# Altium footprint library DNM48Z V1.1.PcbLib: 15 footprints
Each footprint in its own frame and in the unit in brackets; x right, y up, seen from the top. Pads: shape width x height; smd on the part's side, far side on the other; paste and mask are expansions set on the pad; w line width, h text height; cw(c..) or ccw(c..) is an arc to the next point about the centre after c.
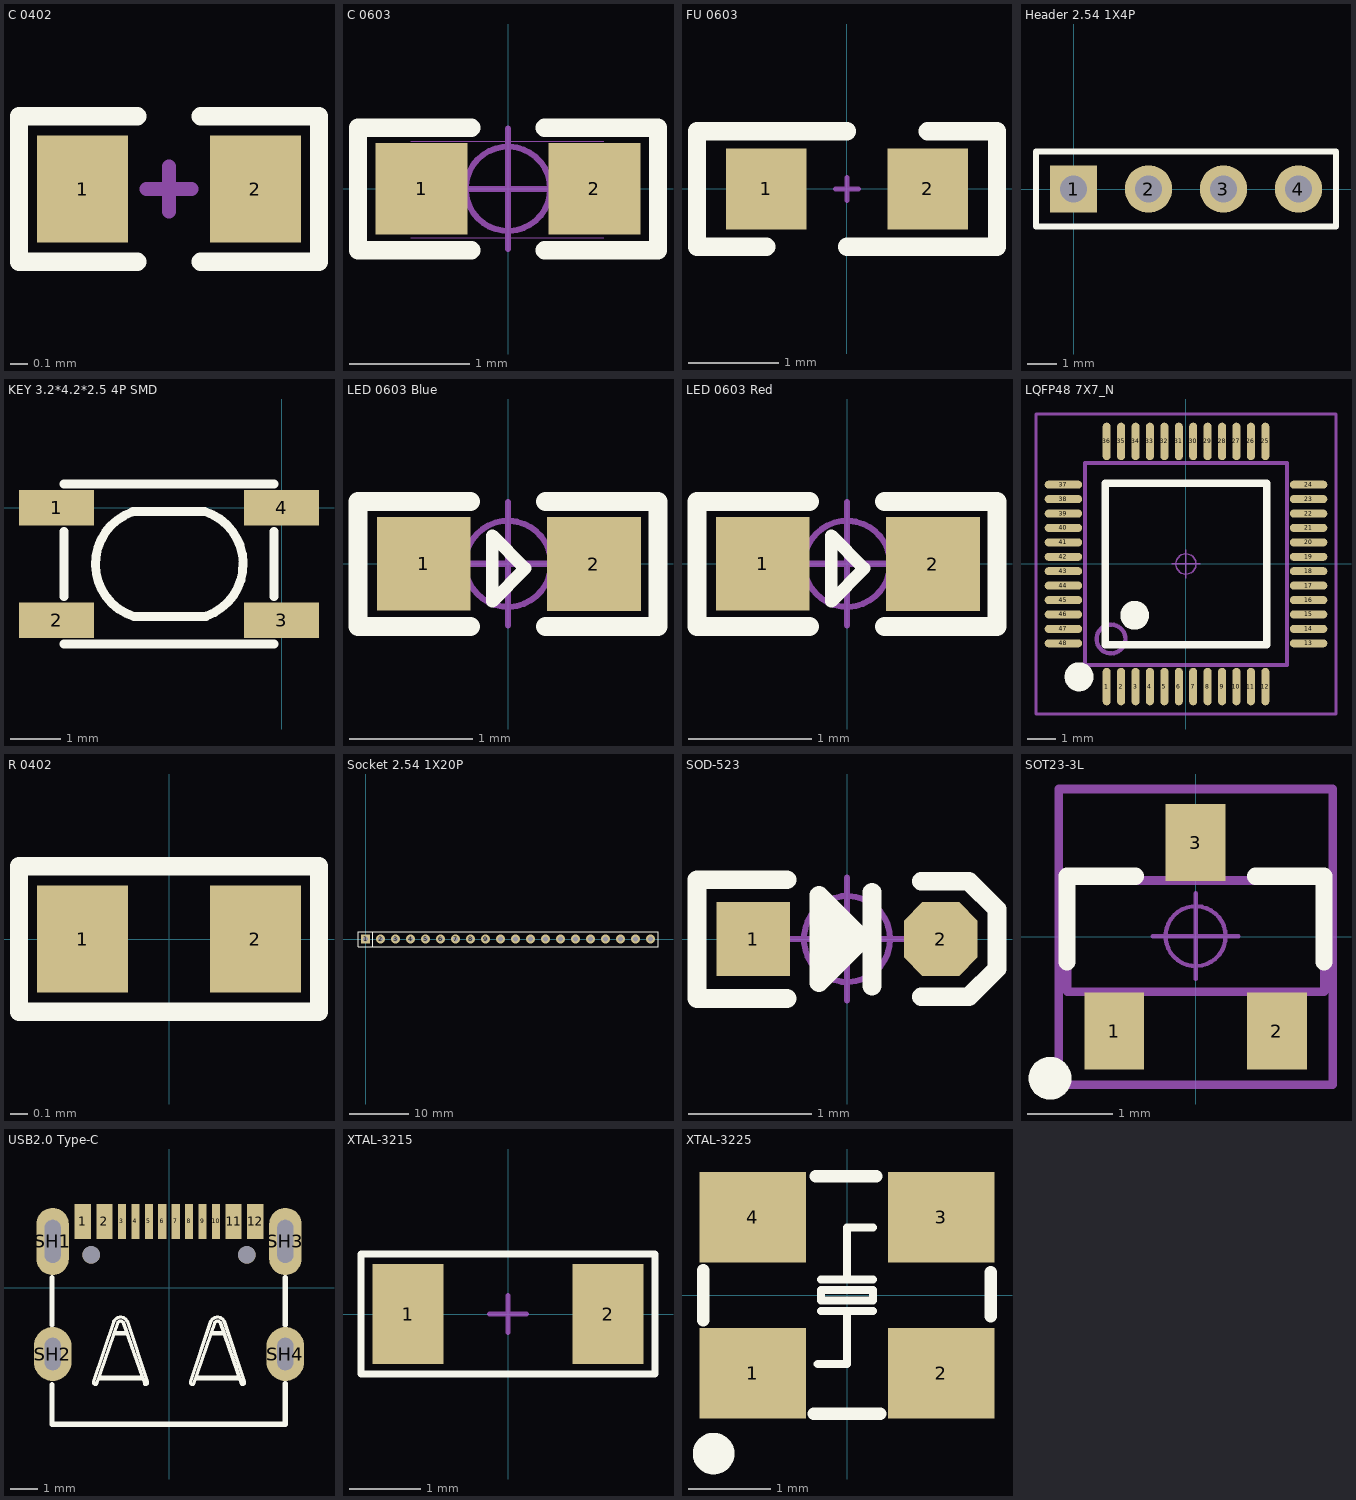
[diagram p0: the footprints below, top view; thin cyan lines are the x and y axes]

## C 0402 [mil]
pads (2):
  rect 20x23.62 smd mask+2: 1(-50019,-50000) 2(-49981,-50000)
Top Overlay:
  lines w4: -50007,-50016 -50033,-50016 -50033,-49984 -50007,-49984 ; -49993,-50016 -49967,-50016 -49967,-49984 -49993,-49984
Mechanical 15:
  lines w3: -50005,-50000 -49995,-50000 ; -50000,-50005 -50000,-49995

## C 0603 [mil]
pads (2):
  rect 30x30 smd mask+2: 1(-28.25,0) 2(28.25,0)
Top Overlay:
  lines w6: -12,-20.06 -49,-20.06 -49,19.94 -12,19.94 ; 12,-20.06 49,-20.06 49,19.94 12,19.94
Mechanical 13:
  lines w0.39: -31.75,-16 31.25,-16 ; -31.75,15.5 31.25,15.5
Mechanical 15:
  circle w1.97: c0,0 r13.78
  lines w1.97: -19.68,0 19.68,0 ; 0,-19.68 0,19.68

## FU 0603 [mil]
pads (2):
  rect 35x35 smd: 1(-35,0) 2(35,0)
Top Overlay:
  lines w8: -35,-25 -65,-25 -65,25 -40,25 0,25 ; 0,-25 40,-25 65,-25 65,25 35,25
Mechanical 15:
  lines w2: -5,0 5,0 ; 0,-5 0,0 0,5

## Header 2.54 1X4P [mm]
pads (4):
  rect 1.6x1.6 hole 0.9: 1(0,0)
  round 1.6 hole 0.9: 2(2.54,0) 3(5.08,0) 4(7.62,0)
Top Overlay:
  lines w0.2: -1.27,-1.27 -1.27,1.27 8.89,1.27 8.89,-1.27 -1.27,-1.27

## KEY 3.2*4.2*2.5 4P SMD [mm]
pads (4):
  rect 1.5x0.7 smd: 1(-4.5,0) 2(-4.5,-2.25) 3(0,-2.25) 4(0,0)
Top Overlay:
  lines w0.178: -4.35,-2.725 -0.15,-2.725 ; -4.35,-1.775 -4.35,-0.475 ; -4.35,0.475 -0.15,0.475 ; -2.988,-0.088 ccw(c-2.622,-1.125) -2.95,-2.175 -1.513,-2.175 ; -2.975,-0.075 -1.538,-0.075 cw(c-1.866,-1.125) -1.5,-2.162 ; -0.15,-1.775 -0.15,-0.475

## LED 0603 Blue [mil]
pads (2):
  rect 30x30 smd: 1(-27,0) 2(27.5,-0.06)
Top Overlay:
  lines w4: -5,-12 5.5,-1.5 -5,9 -5,-12
  lines w6: -12,-20.06 -48,-20.06 -48,19.94 -12,19.94 ; 12,-20.06 48,-20.06 48,19.94 12,19.94
Mechanical 15:
  circle w1.97: c0,0 r13.78
  lines w1.97: -19.68,0 19.68,0 ; 0,-19.68 0,19.68

## LED 0603 Red [mil]
pads (2):
  rect 30x30 smd: 1(-27,0) 2(27.5,-0.06)
Top Overlay:
  lines w4: -5,-12 5.5,-1.5 -5,9 -5,-12
  lines w6: -12,-20.06 -48,-20.06 -48,19.94 -12,19.94 ; 12,-20.06 48,-20.06 48,19.94 12,19.94
Mechanical 15:
  circle w1.97: c0,0 r13.78
  lines w1.97: -19.68,0 19.68,0 ; 0,-19.68 0,19.68

## LQFP48 7X7_N [mm]
pads (48):
  oval 0.279x1.3 smd: 1(-2.75,-4.25) 2(-2.25,-4.25) 3(-1.75,-4.25) 4(-1.25,-4.25) 5(-0.75,-4.25) 6(-0.25,-4.25) 7(0.25,-4.25) 8(0.75,-4.25) 9(1.25,-4.25) 10(1.75,-4.25) 11(2.25,-4.25) 12(2.75,-4.25) 25(2.75,4.25) 26(2.25,4.25) 27(1.75,4.25) 28(1.25,4.25) 29(0.75,4.25) 30(0.25,4.25) 31(-0.25,4.25) 32(-0.75,4.25) 33(-1.25,4.25) 34(-1.75,4.25) 35(-2.25,4.25) 36(-2.75,4.25)
  oval 1.3x0.279 smd: 13(4.25,-2.75) 14(4.25,-2.25) 15(4.25,-1.75) 16(4.25,-1.25) 17(4.25,-0.75) 18(4.25,-0.25) 19(4.25,0.25) 20(4.25,0.75) 21(4.25,1.25) 22(4.25,1.75) 23(4.25,2.25) 24(4.25,2.75) 37(-4.25,2.75) 38(-4.25,2.25) 39(-4.25,1.75) 40(-4.25,1.25) 41(-4.25,0.75) 42(-4.25,0.25) 43(-4.25,-0.25) 44(-4.25,-0.75) 45(-4.25,-1.25) 46(-4.25,-1.75) 47(-4.25,-2.25) 48(-4.25,-2.75)
Top Overlay:
  circle w0.5: c-1.778,-1.778 r0.25
  circle w0.508: c-3.707,-3.91 r0.25
  lines w0.254: -2.794,-2.794 2.794,-2.794 2.794,2.794 -2.794,2.794 -2.794,-2.794
Mechanical 13:
  circle w0.15: c-2.6,-2.6 r0.5
  lines w0.15: -3.5,-3.5 -3.5,3.5 3.5,3.5 3.5,-3.5 -3.5,-3.5
Mechanical 15:
  circle w0.05: c0,0 r0.35
  lines w0.05: -0.5,0 0.5,0 ; 0,-0.5 0,0.5
  lines w0.1: -5.2,-5.2 5.2,-5.2 5.2,5.2 -5.2,5.2 -5.2,-5.2

## R 0402 [mil]
pads (2):
  rect 20x23.62 smd mask+2: 1(-19,0) 2(19,0)
Top Overlay:
  lines w4: 7,-16 33,-16 33,16 7,16 ; 8,16 -33,16 -33,-16 9,-16

## Socket 2.54 1X20P [mm]
pads (20):
  rect 1.5x1.5 hole 0.9: 1(0,0)
  round 1.5 hole 0.9: 2(2.54,0) 3(5.08,0) 4(7.62,0) 5(10.16,0) 6(12.7,0) 7(15.24,0) 8(17.78,0) 9(20.32,0) 10(22.86,0) 11(25.4,0) 12(27.94,0) 13(30.48,0) 14(33.02,0) 15(35.56,0) 16(38.1,0) 17(40.64,0) 18(43.18,0) 19(45.72,0) 20(48.26,0)
Top Overlay:
  lines w0.2: 1.25,-1.25 1.25,1.25 ; -1.27,-1.27 -1.27,1.27 0.635,1.27 49.53,1.27 49.53,-1.27 -1.27,-1.27

## SOD-523 [mm]
pads (2):
  rect 0.6x0.6 smd mask+0.064: 1(-0.762,0)
  oct 0.6x0.6 smd mask+0.064: 2(0.762,0)
Top Overlay:
  rectangle: -0.178,-0.178 0,0.178
  lines w0.152: -0.488,-0.483 -1.219,-0.483 -1.219,0.483 -0.488,0.483 ; -0.127,0 0.127,0 ; 0.203,-0.381 0.203,0.381 ; 0.604,-0.47 0.991,-0.47 1.219,-0.241 1.219,0.241 0.991,0.47 0.604,0.47 ; 0.127,0 -0.229,0.356 -0.229,-0.356 0.127,0
Mechanical 15:
  circle w0.05: c0,0 r0.35
  lines w0.05: -0.5,0 0.5,0 ; 0,-0.5 0,0.5

## SOT23-3L [mm]
pads (3):
  rect 0.7x0.9 smd: 1(-0.95,-1.1) 2(0.95,-1.1) 3(0,1.1)
Top Overlay:
  circle w0.25: c-1.7,-1.651 r0.125
  lines w0.2: -1.5,-0.291 -1.5,0.709 -0.7,0.709 ; 0.7,0.709 1.5,0.709 1.5,-0.291
Mechanical 13:
  lines w0.1: -1.5,-0.641 -1.5,0.659 1.5,0.659 1.5,-0.641 -1.5,-0.641
Mechanical 15:
  circle w0.05: c0,0.009 r0.35
  lines w0.05: -0.5,0.009 0.5,0.009 ; 0,-0.491 0,0.509
  lines w0.1: -1.6,-1.727 -1.6,1.727 1.6,1.727 1.6,-1.727 -1.6,-1.727

## USB2.0 Type-C [mm]
pads (18):
  rect 0.6x1.3 smd mask+0.064: 1(-3.2,2.462) 2(-2.4,2.462) 11(2.4,2.462) 12(3.2,2.462)
  rect 0.3x1.3 smd mask+0.064: 3(-1.75,2.462) 4(-1.25,2.462) 5(-0.75,2.462) 6(-0.25,2.462) 7(0.25,2.462) 8(0.75,2.462) 9(1.25,2.462) 10(1.75,2.462)
  oval 1.2x2.5 hole 0.6 slot 1.6 at 90 deg: SH1(-4.32,1.718) SH3(4.32,1.717)
  oval 1.4x2 hole 0.6 slot 1.2 at 90 deg: SH2(-4.32,-2.462) SH4(4.32,-2.462)
  round 0.65 hole 0.65 unplated mask+0: ""(-2.89,1.218) ""(2.89,1.218)
Top Overlay:
  lines w0.12: -2.623,-3.39 -0.973,-3.39 ; -2.598,-3.315 -0.998,-3.315 ; -2.048,-1.715 -1.548,-1.715 ; -2.023,-1.665 -1.573,-1.665 ; 0.977,-3.39 2.627,-3.39 ; 1.002,-3.315 2.602,-3.315 ; 1.552,-1.715 2.052,-1.715 ; 1.577,-1.665 2.027,-1.665 ; -1.713,-1.275 ccw(c-1.798,-1.361) -1.798,-1.24 ccw(c-1.798,-1.361) -1.883,-1.275 -1.898,-1.29 -2.698,-3.59 cw(c-2.723,-3.515) -2.798,-3.49 -2.048,-1.24 -1.969,-1.161 cw(c-1.798,-1.331) -1.798,-1.09 cw(c-1.798,-1.331) -1.627,-1.161 -1.548,-1.24 -0.798,-3.49 cw(c-0.873,-3.515) -0.898,-3.59 -1.698,-1.29 ; -1.713,-1.275 -1.698,-1.29 ; -1.713,-1.275 -1.698,-1.29 ; 1.702,-1.29 1.717,-1.275 ; 1.702,-1.29 0.902,-3.59 cw(c0.877,-3.515) 0.802,-3.49 1.552,-1.24 1.631,-1.161 cw(c1.802,-1.331) 1.802,-1.09 cw(c1.802,-1.331) 1.973,-1.161 2.052,-1.24 2.802,-3.49 cw(c2.727,-3.515) 2.702,-3.59 1.902,-1.29 1.887,-1.275 ccw(c1.802,-1.361) 1.802,-1.24 ccw(c1.802,-1.361) 1.717,-1.275 ; 1.702,-1.29 1.717,-1.275
  lines w0.2: -4.343,-3.593 -4.343,-5.066 4.32,-5.066 4.32,-3.562 ; -4.343,-1.385 -4.343,0.37 ; 4.32,-1.382 4.32,0.373

## XTAL-3215 [mm]
pads (2):
  rect 1x1.4 smd: 1(-1.4,0) 2(1.4,0)
Top Overlay:
  lines w0.1: -2.057,-0.838 -2.057,0.838 2.057,0.838 2.057,-0.838 -2.057,-0.838
Mechanical 15:
  lines w0.076: -0.254,0 0.254,0 ; 0,-0.254 0,0.254

## XTAL-3225 [mm]
pads (4):
  rect 1.3x1.1 smd: 1(-1.15,-0.95) 2(1.15,-0.95) 3(1.15,0.95) 4(-1.15,0.95)
Top Overlay:
  circle w0.254: c-1.626,-1.93 r0.127
  lines w0.1: -0.317,-0.19 0.318,-0.19 ; -0.317,0.191 0.318,0.191 ; 0,-0.838 0,-0.19 ; 0,0.191 0,0.826 0.318,0.826 ; -0.317,-0.063 0.318,-0.063 0.318,0.064 -0.317,0.064 -0.317,-0.063
  lines w0.102: -0.356,-0.838 0,-0.838
  lines w0.152: -1.753,-0.305 -1.753,0.305 ; -0.406,-1.448 0.406,-1.448 ; -0.381,1.448 0.356,1.448 ; 1.753,-0.254 1.753,0.279